# EAGLE library part TSW-S-07 (library con-samtec-tsw)
HEADER
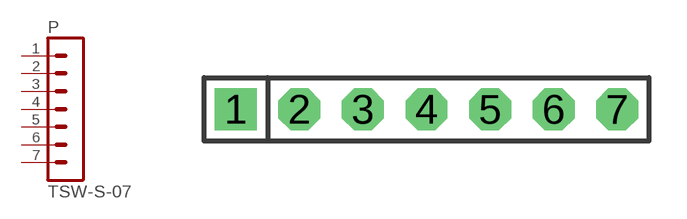
[diagram p1: symbol with the pads of TSW-S-07; footprint TSW-S-07]

Designator prefix P

## TSW-S-07  [TSW-S-07]
1  1  pas
2  2  pas
3  3  pas
4  4  pas
5  5  pas
6  6  pas
7  7  pas

## Footprint TSW-S-07 (pad centres in mm)
HEADER
drill 0.914 pad 1.676 square: 1 -7.62,0
drill 0.914 pad 1.676 octagon: 2 -5.08,0; 3 -2.54,0; 4 0,0; 5 2.54,0; 6 5.08,0; 7 7.62,0